# Altium footprint library condensateur_pol.PcbLib: 1 footprints
Each footprint in its own frame and in the unit in brackets; x right, y up, seen from the top. Pads: shape width x height; smd on the part's side, far side on the other; paste and mask are expansions set on the pad; w line width, h text height; cw(c..) or ccw(c..) is an arc to the next point about the centre after c.
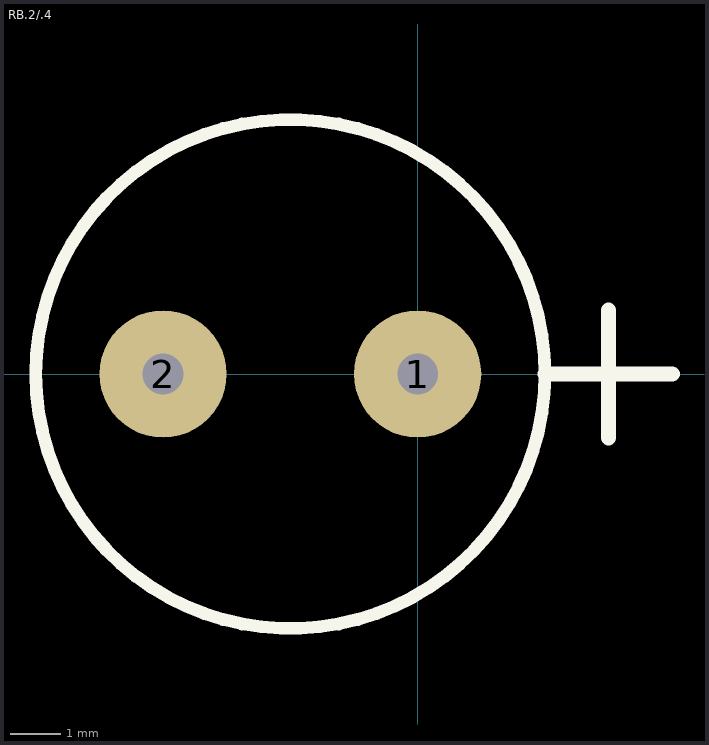
[diagram p0: the footprint, top view; thin cyan lines are the x and y axes]

## RB.2/.4 [mil]
pads (2):
  round 100 hole 32: 1(0,0) 2(-200,0)
Top Overlay:
  circle w10: c-100,0 r200
  lines w12: 100,0 200,0 ; 150,-50 150,50
3D body "condensateur_polarise.step": height 203.43, standoff 6.57, extent -191.85,-516.85 5,-123.15